# Altium footprint library DS1014-10.PcbLib: 1 footprints
Each footprint in its own frame and in the unit in brackets; x right, y up, seen from the top. Pads: shape width x height; smd on the part's side, far side on the other; paste and mask are expansions set on the pad; w line width, h text height; cw(c..) or ccw(c..) is an arc to the next point about the centre after c.
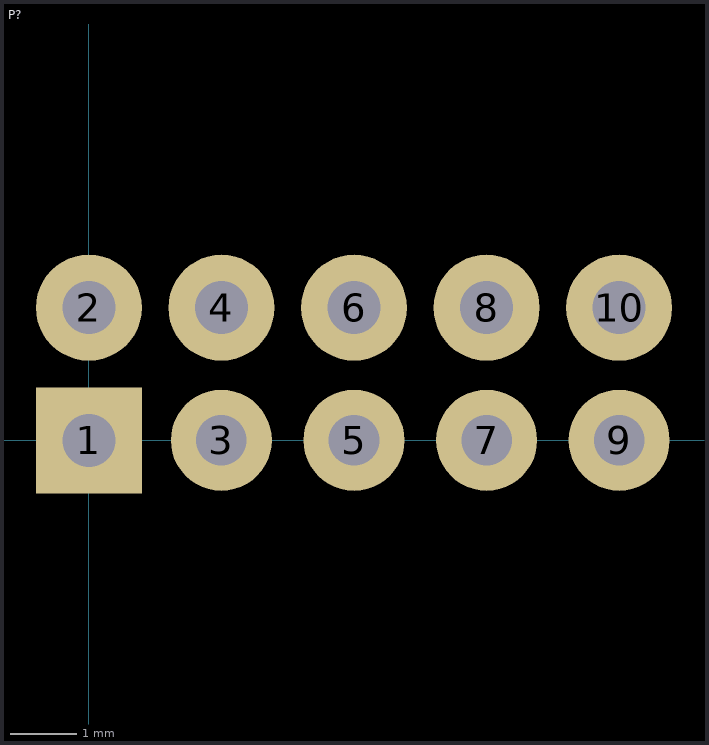
[diagram p0: the footprint, top view; thin cyan lines are the x and y axes]

## P? [mm]
pads (10):
  rect 1.6x1.6 hole 0.8: 1(0,0)
  round 1.6 hole 0.8: 2(0,2) 4(2,2) 6(4,2) 8(6,2) 10(8,2)
  round 1.524 hole 0.762: 3(2,0) 5(4,0) 7(6,0) 9(8,0)
3D body "User Library-BH2-xx10-64.step": height 5.65, standoff -3.6, extent -4.75,-1.75 12.25,3.7